# Altium integrated library Voltage Regulator.IntLib: 12 symbols
Pins are listed as number, name and electrical type; pins without a type are passive.

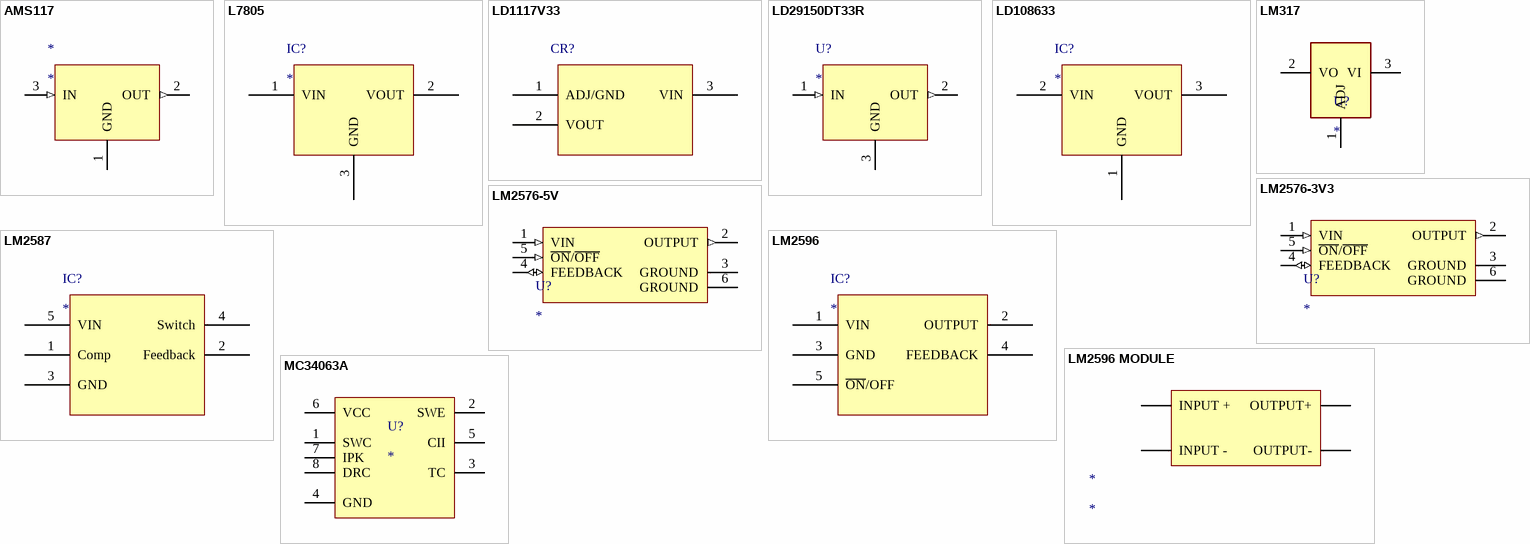
[diagram p0: symbols AMS117 to MC34063A]

## AMS117
designator *
3V3
footprint AMS1117
pins: 1 GND, 2 OUT (out), 3 IN (in)

## L7805
designator IC?
IC-7805 V.REG.+5V 1.5A DPAK TO252
footprint DPAK (D-PAK, 3-Pads, Body 6,20x6,56mm (max), IPC Medium Density)
pins: 1 VIN, 2 VOUT, 3 GND

## LD1117V33
designator CR?
Mfr_Name: STMicroelectronics; Manufacturer_Part_Number: LD1117V33; Type: DEV; Copyright: Copyright (C) 2021 Ultra Librarian. All rights reserved.; Digi-Key_Part_Number_1: 497-1491-5-ND; RefDes: RefDes
footprint TO220-LD1117V33
pins: 1 ADJ/GND, 2 VOUT (power), 3 VIN (power)

## LD29150DT33R
designator U?
3V3
footprint TO252-3
pins: 1 IN (in), 2 OUT (out), 3 GND

## LD108633
designator IC?
IC-1086 V.REG LDO 3.3V 1.5A TO-252 (DPAK)
footprint DPAK (D-PAK, 3-Pads, Body 6,20x6,56mm (max), IPC Medium Density)
pins: 1 GND, 2 VIN, 3 VOUT

## LM317
designator U?
T0-220
footprint LM317
pins: 1 ADJ (power), 2 VO (power), 3 VI (power)

## LM2576-3V3
designator U?
3V3
footprint LM2576
pins: 1 VIN (in), 2 OUTPUT (out), 3 GROUND (oc), 4 FEEDBACK (io), 5 ~{ON}/~{OFF} (in), 6 GROUND (oc)

## LM2576-5V
designator U?
5V
footprint LM2576
pins: 1 VIN (in), 2 OUTPUT (out), 3 GROUND (oc), 4 FEEDBACK (io), 5 ~{ON}/~{OFF} (in), 6 GROUND (oc)

## LM2587
designator IC?
Boost Converter
footprint D2PAK
pins: 1 Comp, 2 Feedback, 3 GND, 4 Switch, 5 VIN

## LM2596
designator IC?
Buck Converter
footprint D2PAK
pins: 1 VIN, 2 OUTPUT, 3 GND, 4 FEEDBACK, 5 ~{ON}/OFF

## LM2596 MODULE
designator *
footprint LM2596 MODULE
pins: IN+ INPUT +, IN- INPUT -, OUT+ OUTPUT+, OUT- OUTPUT-

## MC34063A
designator U?
Buck, Boost Switching Regulator IC Positive or Negative Adjustable 1.25V 1 Output 1.5A (Switch) 8-SOIC (0.154, 3.90mm Width); MF: ON Semiconductor; MP: MC34063A; Package: SOIC-8 ON; Price: None; Value: *; SnapEDA_Link: https://www.snapeda.com/parts/MC34063A/Onsemi/view-part/?ref=snap; Availability: In Stock; Check_prices: https://www.snapeda.com/parts/MC34063A/Onsemi/view-part/?ref=eda
footprint SOIC8_150MIL
pins: 1 SWC, 2 SWE, 3 TC, 4 GND, 5 CII, 6 VCC, 7 IPK, 8 DRC